# Altium schematic symbol library SCMR22L105SRBB0.SchLib: 2 symbols
Pins are listed as number, name and electrical type; pins without a type are passive.

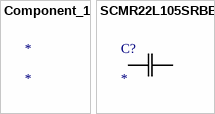
[diagram p0: symbols Component_1 to SCMR22L105SRBB0]

## Component_1
designator *

## SCMR22L105SRBB0
designator C?
No Description Available; Mfr_Name: KYOCERA AVX
footprint CAP_SCM-R-L_13.5LS-24x8x22-0.65d_KAV
pins: 1, 2